# EAGLE library part MMA7260 (library IC)
Freescale MMA7260 1.5g-6g Three Axis Accelerometer
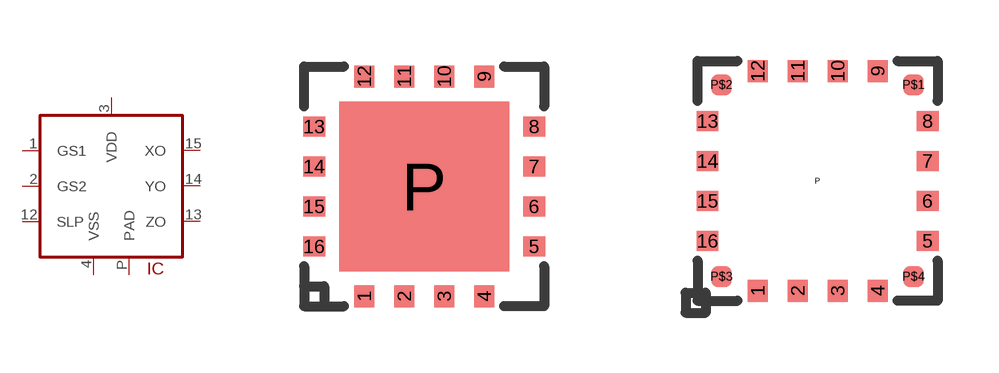
[diagram p108: symbol with the pads of QFN16_FS; footprints QFN16_FS, QFN16_FS_B]

Designator prefix IC

## MMA7260Q  [QFN16_FS]
1  GS1
2  GS2
3  VDD  pwr
4  VSS  pwr
12  SLP
13  ZO
14  YO
15  XO
P  PAD

## MMA7260QT  [QFN16_FS_B]
Pads as for QFN16_FS

## Footprint QFN16_FS (pad centres in mm)
16 pin QFN (Freescale)
smd 0.5 x 0.55: 1 -1.5,-2.75; 2 -0.5,-2.75; 3 0.5,-2.75; 4 1.5,-2.75; 9 1.5,2.75; 10 0.5,2.75; 11 -0.5,2.75; 12 -1.5,2.75
smd 0.55 x 0.5: 5 2.75,-1.5; 6 2.75,-0.5; 7 2.75,0.5; 8 2.75,1.5; 13 -2.75,1.5; 14 -2.75,0.5; 15 -2.75,-0.5; 16 -2.75,-1.5
smd 4.25 x 4.25: P 0,0

## Footprint QFN16_FS_B (pad centres in mm)
QFN16 package Freescale, Issue B
smd 0.5 x 0.55: 1 -1.5,-2.75; 2 -0.5,-2.75; 3 0.5,-2.75; 4 1.5,-2.75; 9 1.5,2.75; 10 0.5,2.75; 11 -0.5,2.75; 12 -1.5,2.75
smd 0.55 x 0.5: 5 2.75,-1.5; 6 2.75,-0.5; 7 2.75,0.5; 8 2.75,1.5; 13 -2.75,1.5; 14 -2.75,0.5; 15 -2.75,-0.5; 16 -2.75,-1.5
smd 0 x 0: P 0,0
smd 0.5 x 0.5: P$1 2.4,2.4; P$2 -2.4,2.4; P$3 -2.4,-2.4; P$4 2.4,-2.4